# Altium schematic symbol library XbeeBedSchematicLib.SchLib: 8 symbols
Pins are listed as number, name and electrical type; pins without a type are passive.

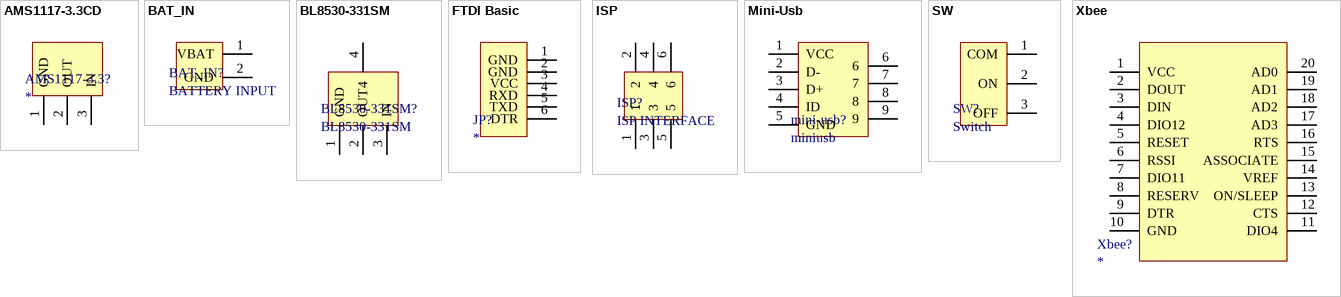
[diagram p0: symbols AMS1117-3.3CD to Xbee]

## AMS1117-3.3CD
designator AMS1117-3.3?
pins: 1 GND, 2 OUT, 3 IN

## BAT_IN
designator BAT_IN?, comment BATTERY INPUT
pins: 1 VBAT, 2 GND

## BL8530-331SM
designator BL8530-331SM?
pins: 1 GND, 2 OUT, 3 IN, 4

## FTDI Basic
designator JP?
pins: 1 GND, 2 GND, 3 VCC, 4 RXD, 5 TXD, 6 DTR

## ISP
designator ISP?, comment ISP INTERFACE
pins: 1, 2, 3, 4, 5, 6

## Mini-Usb
designator mini-usb?, comment miniusb
pins: 1 VCC, 2 D-, 3 D+, 4 ID, 5 GND, 6, 7, 8, 9

## SW
designator SW?, comment Switch
pins: 1 COM, 2 ON, 3 OFF

## Xbee
designator Xbee?
pins: 1 VCC, 2 DOUT, 3 DIN, 4 DIO12, 5 RESET, 6 RSSI, 7 DIO11, 8 RESERV, 9 DTR, 10 GND, 11 DIO4, 12 CTS, 13 ON/SLEEP, 14 VREF, 15 ASSOCIATE, 16 RTS, 17 AD3, 18 AD2, 19 AD1, 20 AD0